# EAGLE library part CS8412 (library chip)
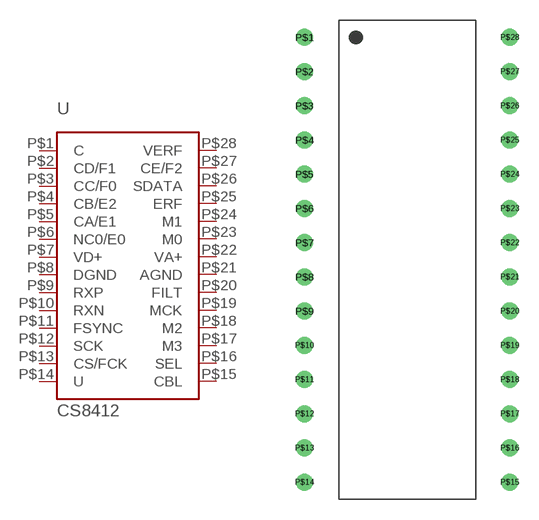
[diagram p0: symbol with the pads of DIP14; footprint DIP14]

Designator prefix U

## CS8412  [DIP14]
P$1  C
P$2  CD/F1
P$3  CC/F0
P$4  CB/E2
P$5  CA/E1
P$6  NC0/E0
P$7  VD+
P$8  DGND
P$9  RXP
P$10  RXN
P$11  FSYNC
P$12  SCK
P$13  CS/FCK
P$14  U
P$15  CBL
P$16  SEL
P$17  M3
P$18  M2
P$19  MCK
P$20  FILT
P$21  AGND
P$22  VA+
P$23  M0
P$24  M1
P$25  ERF
P$26  SDATA
P$27  CE/F2
P$28  VERF

## Footprint DIP14 (pad centres in mm)
drill 0.762: P$1 -7.62,16.51; P$2 -7.62,13.97; P$3 -7.62,11.43; P$4 -7.62,8.89; P$5 -7.62,6.35; P$6 -7.62,3.81; P$7 -7.62,1.27; P$8 -7.62,-1.27; P$9 -7.62,-3.81; P$10 -7.62,-6.35; P$11 -7.62,-8.89; P$12 -7.62,-11.43; P$13 -7.62,-13.97; P$14 -7.62,-16.51; P$15 7.62,-16.51; P$16 7.62,-13.97; P$17 7.62,-11.43; P$18 7.62,-8.89; P$19 7.62,-6.35; P$20 7.62,-3.81; P$21 7.62,-1.27; P$22 7.62,1.27; P$23 7.62,3.81; P$24 7.62,6.35; P$25 7.62,8.89; P$26 7.62,11.43; P$27 7.62,13.97; P$28 7.62,16.51